# Altium schematic symbol library MOSFET_P_SGD.Schlib: 1 symbol
Pins are listed as number, name and electrical type; pins without a type are passive.

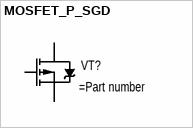
[diagram p0: symbol MOSFET_P_SGD]

## MOSFET_P_SGD
designator VT?
pins: 1 S, 2 G, 3 D